# Altium footprint library Diode.PcbLib: 34 footprints (part 1 of 3)
Each footprint in its own frame and in the unit in brackets; x right, y up, seen from the top. Pads: shape width x height; smd on the part's side, far side on the other; paste and mask are expansions set on the pad; w line width, h text height; cw(c..) or ccw(c..) is an arc to the next point about the centre after c.
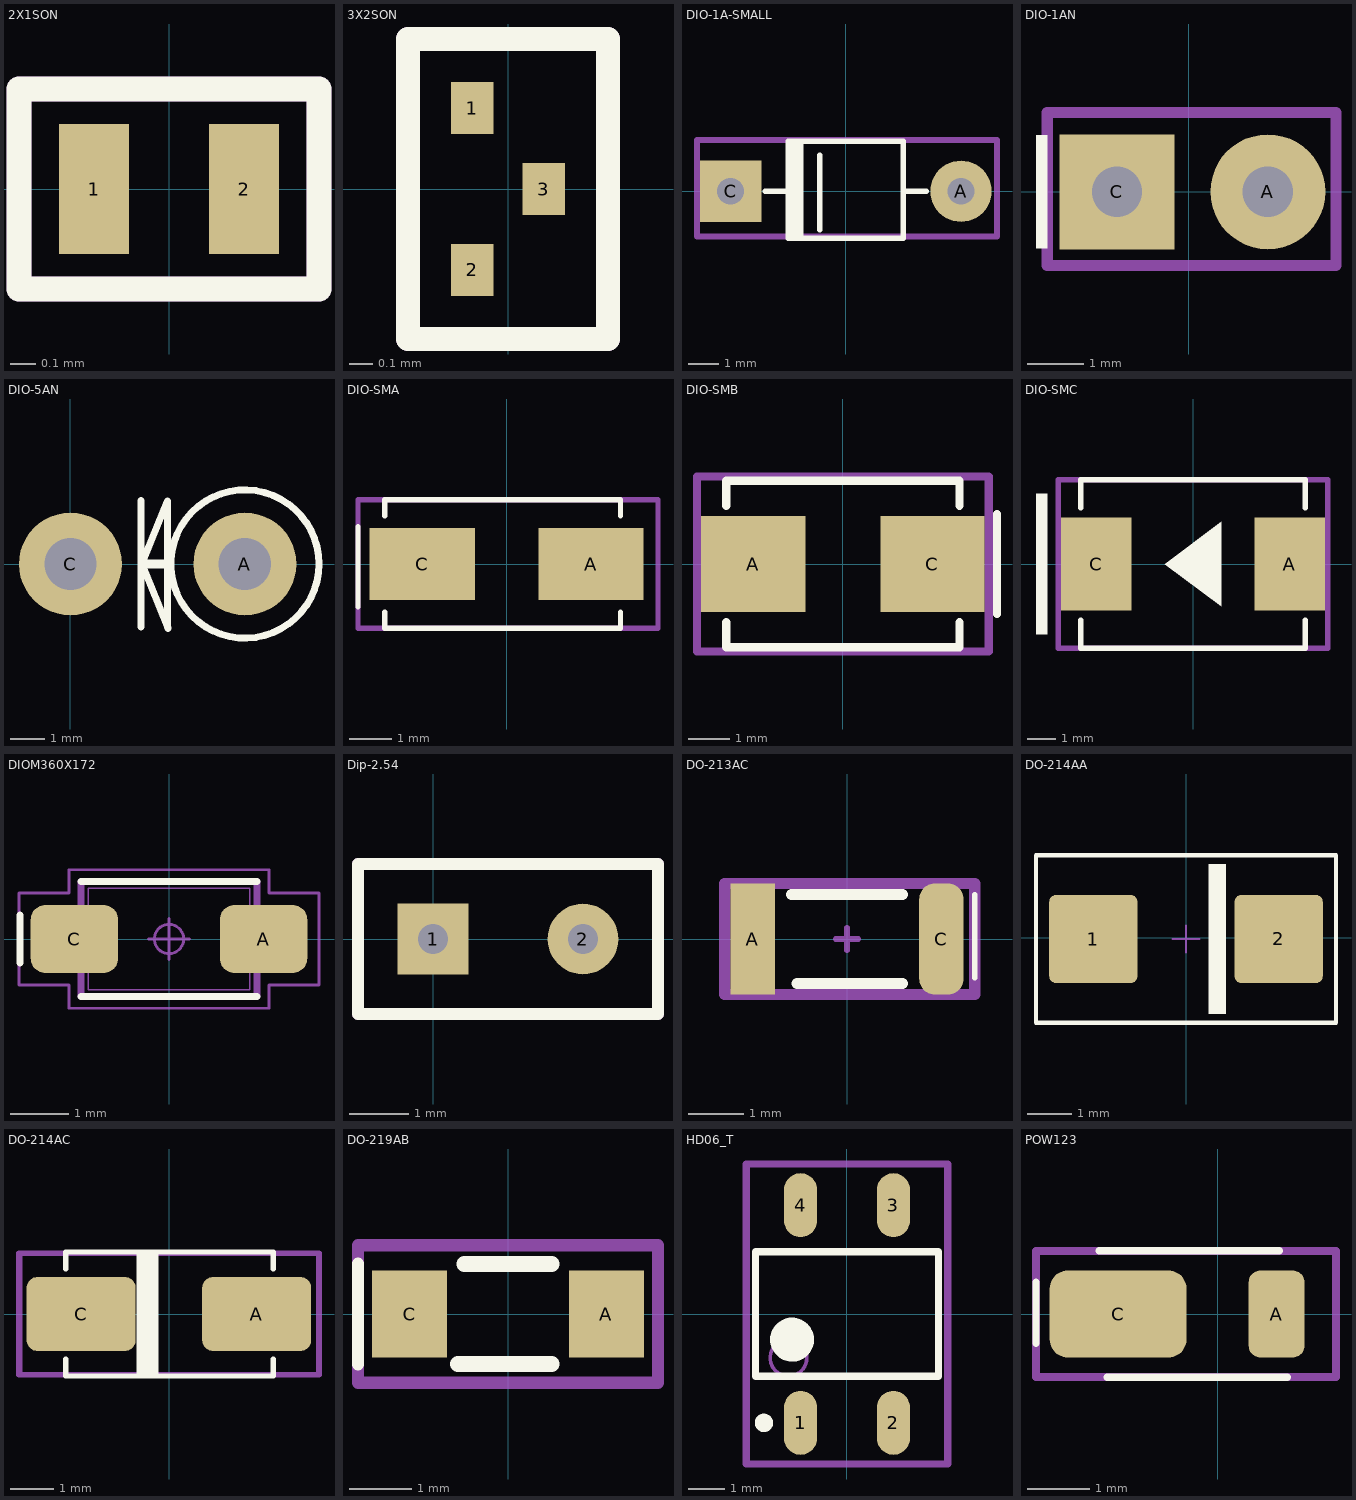
[diagram p0: the footprints below, top view; thin cyan lines are the x and y axes]

## 2X1SON [mm] "Diode, Non-Polarized, Dual Flat No-Lead (DFN 2 Pin); 2 pin, 1.00 mm L X 0.60 mm W X 0.45 mm H body"
height 0.45
pads (2):
  rect 0.28x0.52 smd: 1(-0.3,0) 2(0.3,0)
Top Overlay:
  lines w0.1: -0.6,-0.4 -0.6,0.4 0.6,0.4 0.6,-0.4 -0.6,-0.4
Mechanical 13:
  lines w0.1: -0.6,-0.4 0.6,-0.4 0.6,0.4 -0.6,0.4 -0.6,-0.4
  text ".Designator" at -0.6,-0.2 h0.5
Mechanical 15:
  lines w0.1: -0.6,-0.4 0.6,-0.4 0.6,0.4 -0.6,0.4 -0.6,-0.4
  text ".Comment" at -0.6,-0.1 h0.5
3D body "2X1SON.STEP": height 0.45, standoff 0, extent -0.5,-0.3 0.5,0.3

## 3X2SON [mm] "Diode, Dual Flat No-Lead (DFN 3 Pins), 0.30 mm pitch; 3 pin, 0.60 mm L X 1.00 mm W X 0.40 mm H body"
height 0.4
pads (3):
  rect 0.18x0.22 smd: 1(-0.15,0.34) 2(-0.15,-0.34) 3(0.15,0)
Top Overlay:
  lines w0.1: -0.42,-0.63 0.42,-0.63 0.42,0.63 -0.42,0.63 -0.42,-0.63
Mechanical 13:
  lines w0.1: -0.42,-0.63 -0.42,0.63 0.42,0.63 0.42,-0.63 -0.42,-0.63
  text ".Designator" at 0.2,-0.63 h0.5
Mechanical 15:
  lines w0.1: -0.42,-0.63 -0.42,0.63 0.42,0.63 0.42,-0.63 -0.42,-0.63
  text ".Comment" at 0.1,-0.63 h0.5
3D body "3X2SON.STEP": height 0.4, standoff 0, extent -0.3,-0.5 0.3,0.5

## DIO-1A-SMALL [mil] "Diode 1A, W 100mil, L 350mil"
height 100
pads (2):
  round 80 hole 35: A(150,0)
  rect 80x80 hole 35: C(-150,0)
Top Overlay:
  rectangle: -75,-60.98 -55,65
  lines w7: -105,0 -75,0 ; -75,-16 -75,0 ; -75,21 -75,0 ; -34,-50 -34,47 ; 75,0 105,0 ; -75,0 -75,65 75,65 75,-60.98 -75,-60.98 -75,0
Mechanical 13:
  lines w7.87: -193.7,-59.06 -193.7,66.93 196.85,66.93 196.85,-59.06 -193.7,-59.06
  text ".Designator" at -153.54,-11.81 h59.06
Mechanical 15:
  lines w7.87: -193.7,-59.06 196.85,-59.06 196.85,66.93 -193.7,66.93 -193.7,-59.06
  text ".Comment" at -153.54,-11.81 h59.06
3D body "User Library-DO-15-1.step": height 122.05, standoff -137.8, extent -165.75,-60.98 165.75,65

## DIO-1AN [mil] "Diode 1A, W 100mil, L 150mil"
height 100
pads (2):
  round 80 hole 35: A(55,0)
  rect 80x80 hole 35: C(-50,0)
Top Overlay:
  rectangle: -106.3,-39.37 -98.43,39.37
Mechanical 13:
  lines w7.87: -98.43,-51.18 -98.43,55.12 102.36,55.12 102.36,-51.18 -98.43,-51.18
  text ".Designator" at -94.49,-15.75 h59.06
Mechanical 15:
  lines w7.87: -98.43,-51.18 102.36,-51.18 102.36,55.12 -98.43,55.12 -98.43,-51.18
  text ".Comment" at -94.49,-15.75 h59.06
3D body "SW3dPS-1N4007_Stand.STEP": height 252.32, standoff -78.14, extent -64,-50 104,55

## DIO-5AN [mm] "Diode 5A, W 200mil, L 250mil"
height 3.81
pads (2):
  round 3 hole 1.524: A(5.08,0) C(0,0)
Top Overlay:
  circle w0.203: c5.08,0 r2.159
  lines w0.203: 2.057,-1.829 2.057,1.854 ; 2.083,0 2.819,1.829 2.819,-1.854 ; 2.108,-0.051 2.845,-1.88
  lines w0.254: 2.083,0 2.87,0
3D body "User Library-1N540X.STEP": height 11.45, standoff -4, extent -0.815,-2.824 5.641,2.286

## DIO-SMA [mm]
pads (2):
  rect 2.5x1.7 smd: A(2,0) C(-2,0)
Top Overlay:
  lines w0.127: -3.524,-1.016 -3.524,0.889 ; -2.889,-1.143 -2.889,-1.524 2.699,-1.524 2.699,-1.143 ; -2.889,1.143 -2.889,1.524 2.699,1.524 2.699,1.143
Mechanical 13:
  lines w0.127: -3.524,-1.524 3.588,-1.524 3.588,1.524 -3.524,1.524 -3.524,-1.524
  text ".Designator" at -2.3,-0.3 h1
Mechanical 15:
  lines w0.127: -3.524,-1.524 3.588,-1.524 3.588,1.524 -3.524,1.524 -3.524,-1.524
  text ".Comment" at -2.3,-0.1 h1
3D body "SMB.STEP": height 2.3, standoff 0.02, extent -2.743,-1.397 2.743,1.397

## DIO-SMB [mm]
pads (2):
  rect 2.5x2.3 smd: A(-2.15,0) C(2.15,0)
Top Overlay:
  lines w0.2: -2.8,-1.4 -2.8,-2 2.8,-2 2.8,-1.4 ; -2.8,1.4 -2.8,2 2.8,2 2.8,1.4 ; 3.7,-1.2 3.7,1.2
Mechanical 13:
  lines w0.2: -3.5,-2.1 3.5,-2.1 3.5,2.1 -3.5,2.1 -3.5,-2.1
  text ".Designator" at -3.5,-0.5 h1.5
Mechanical 15:
  lines w0.2: -3.5,-2.1 -3.5,2.1 3.5,2.1 3.5,-2.1 -3.5,-2.1
  text ".Comment" at -3.5,-0.4 h1.5
3D body "User Library-DO-214AA(SMB).step": height 2.6, standoff -0.05, extent -2.794,-1.975 2.794,1.975

## DIO-SMC [mm]
pads (2):
  rect 2.5x3.3 smd: A(3.45,0) C(-3.45,0)
Top Overlay:
  region: -5.6,2.5 -5.6,-2.5 -5.2,-2.5 -5.2,2.5
  region: 1,1.5 -1,0 1,-1.5
  lines w0.2: -4,-2 -4,-3 4,-3 4,-2 ; -4,2 -4,3 4,3 4,2
Mechanical 13:
  lines w0.2: -4.8,-3 -4.8,3 4.8,3 4.8,-3 -4.8,-3
  text ".Designator" at -4.4,-0.4 h1.5
Mechanical 15:
  lines w0.2: -4.8,-3 4.8,-3 4.8,3 -4.8,3 -4.8,-3
  text ".Comment" at -4.4,-0.4 h1.5
3D body "User Library-DO-214AB SMC.step": height 2.3, standoff 0, extent -3.975,-2.95 3.975,2.95

## DIOM360X172 [mm] "Diode, Molded Body; 3.60 mm L X 1.725 mm W X 1.08 mm H body"
height 1.08
pads (2):
  rrect43% 1.49x1.16 smd: A(1.61,0) C(-1.61,0)
Top Overlay:
  lines w0.12: -2.535,-0.41 -2.535,0.41 ; -1.5,-0.98 1.5,-0.98 ; -1.5,0.98 1.5,0.98
Mechanical 12:
  lines w0.025: -1.8,-0.413 -1.8,0.413 -1.1,0.413 -1.1,-0.413 -1.8,-0.413 ; -1.375,-0.863 1.375,-0.863 1.375,0.863 -1.375,0.863 -1.375,-0.863 ; 1.1,-0.413 1.8,-0.413 1.8,0.413 1.1,0.413 1.1,-0.413
Mechanical 13:
  lines w0.12: -1.5,-0.98 1.5,-0.98 1.5,0.98 -1.5,0.98 -1.5,-0.98
  text ".Designator" at 0,0 h1.2
Mechanical 15:
  circle w0.05: c0,0 r0.25
  lines w0.05: -0.35,0 0.35,0 ; 0,-0.35 0,0.35 ; -2.555,-0.78 -1.7,-0.78 -1.7,-1.18 1.7,-1.18 1.7,-0.78 2.555,-0.78 2.555,0.78 1.7,0.78 1.7,1.18 -1.7,1.18 -1.7,0.78 -2.555,0.78 -2.555,-0.78
  text ".Comment" at 0,0 h0.64
3D body "DIOM360X172.STEP": height 1.08, standoff 0, extent -1.8,-0.862 1.8,0.863

## Dip-2.54 [mm]
pads (2):
  rect 1.2x1.2 hole 0.5: 1(0,0)
  round 1.2 hole 0.5: 2(2.54,0)
Top Overlay:
  lines w0.2: -1.27,-1.27 3.81,-1.27 3.81,1.27 -1.27,1.27 -1.27,-1.27
Mechanical 13:
  lines w0.2: -1.27,-1.27 -1.27,1.27 3.81,1.27 3.81,-1.27 -1.27,-1.27
  text ".Designator" at -0.861,-0.281 h1
Mechanical 15:
  lines w0.2: -1.27,-1.27 -1.27,1.27 3.81,1.27 3.81,-1.27 -1.27,-1.27
  text ".Comment" at -0.734,-0.281 h1

## DO-213AC [mm]
pads (2):
  rect 0.8x2 smd: A(-1.7,0)
  rrect70% 0.8x2 smd: C(1.7,0)
Top Overlay:
  lines w0.1: 2.3,-0.7 2.3,0.8
  lines w0.2: -1,0.8 1,0.8 ; -0.9,-0.8 1,-0.8
Mechanical 1:
  lines w0.1: -0.2,0 0.2,0 ; 0,-0.2 0,0.2
Mechanical 13:
  lines w0.2: -2.2,-1 2.3,-1 2.3,1 -2.2,1 -2.2,-1
  text ".Designator" at -1.9,-0.8 h2.54
Mechanical 15:
  lines w0.2: -2.2,-1 -2.2,1 2.3,1 2.3,-1 -2.2,-1
  text ".Value" at -1.9,-0.8 h2.54
3D body "DO-213AA-RED.stp": height 1.59, standoff -0.01, extent -1.875,-0.775 1.825,0.8

## DO-214AA [mm] "Diode, Molded Body; 5.23 mm L X 2.62 mm W X 2.95 mm H body"
height 2.95
pads (2):
  rrect15% 2x2 smd paste+0.1: 1(-2.1,-0.025) 2(2.1,-0.025)
Top Overlay:
  region: 0.906,1.675 0.506,1.675 0.506,-1.725 0.906,-1.725
  lines w0.05: -3.4,-1.925 3.4,-1.925 3.4,1.875
  lines w0.1: -3.4,-1.925 -3.4,1.875 3.4,1.875 3.4,-1.925 -3.4,-1.925
Mechanical 14:
  lines w0.05: -3.4,-1.925 -3.4,1.875 3.4,1.875 ; -0.3,-0.025 0.3,-0.025 ; 0,-0.325 0,0.275
3D body "User Library-DO-214AA SMB.STEP": height 2.3, standoff 0, extent -2.7,-1.825 2.7,1.775

## DO-214AC [mm] "Diode, Molded Body; 5.23 mm L X 2.62 mm W X 2.95 mm H body"
height 2.95
pads (2):
  rrect29% 2.5x1.7 smd: A(2,0) C(-2.025,0)
Top Overlay:
  rectangle: -0.75,-1.397 -0.254,1.42
  lines w0.12: -2.38,-1.035 -2.38,-1.42 2.38,-1.42 2.38,-1.035 ; -2.38,1.035 -2.38,1.42 2.38,1.42 2.38,1.035
Mechanical 1:
  lines w0.127: -3.45,-1.397 -3.45,1.397 3.429,1.397 3.429,-1.397 -3.45,-1.397
Mechanical 13:
  text ".Designator" at -2.413,-0.254 h1
Mechanical 15:
  lines w0.127: -3.429,-1.397 -3.429,1.397 3.429,1.397 3.429,-1.397 -3.429,-1.397
  text ".Comment" at -2.413,-0.254 h1
3D body "DO-214AC.STEP": height 2.95, standoff 0, extent -2.615,-1.31 2.615,1.31

## DO-219AB [mm]
height 1.2
pads (2):
  rect 1.2x1.4 smd: A(1.575,0) C(-1.575,0)
Top Overlay:
  lines w0.2: -2.4,-0.8 -2.4,0.8
  lines w0.254: -0.8,-0.8 0.7,-0.8 ; -0.7,0.8 0.7,0.8
Mechanical 13:
  lines w0.2: -2.4,-1.1 -2.4,1.1 2.4,1.1 2.4,-1.1 -2.4,-1.1
  text ".Designator" at -2.151,-0.281 h1.5
Mechanical 15:
  lines w0.2: -2.4,-1.1 2.4,-1.1 2.4,1.1 -2.4,1.1 -2.4,-1.1
  text ".Comment" at -2.024,-0.281 h1
3D body "User Library-SOD-123.step": height 1.25, standoff 0, extent -1.849,-0.8 1.849,0.8

## HD06_T [mm]
pads (4):
  oval 0.9x1.75 smd: 1(-1.27,-2.975) 2(1.27,-2.975) 3(1.27,2.975) 4(-1.27,2.975)
Top Overlay:
  circle w0.25: c-2.27,-2.975 r0.125
  circle w0.6: c-1.5,-0.7 r0.3
  lines w0.2: -2.5,-1.7 2.5,-1.7 2.5,1.7 -2.5,1.7 -2.5,-1.7
Mechanical 13:
  circle w0.1: c-1.6,-1.2 r0.5
  lines w0.2: -2.75,-4.1 -2.75,4.1 ; -2.75,-4.1 -2.75,4.1 ; -2.75,-4.1 2.75,-4.1 ; -2.75,-4.1 2.75,-4.1 ; -2.75,4.1 2.75,4.1 ; -2.75,4.1 2.75,4.1 ; 2.75,-4.1 2.75,4.1 ; 2.75,-4.1 2.75,4.1
  text ".Designator" at -2.3,0 h1.5
3D body "MBS.step": height 2.9, standoff 0, extent -2.5,-3.35 2.5,3.35

## POW123 [mm] "Diode, Small Outline Diode (SOD); 2.75 mm L X 1.80 mm W X 1.02 mm H body"
height 1.02
pads (2):
  rrect41% 0.9x1.4 smd: A(0.95,0)
  rrect41% 2.2x1.4 smd: C(-1.6,0)
Top Overlay:
  lines w0.12: -2.921,-0.472 -2.921,0.508 ; -1.905,1.016 0.995,1.016 ; -1.778,-1.016 1.122,-1.016
Mechanical 13:
  lines w0.12: -2.921,-1.016 1.905,-1.016 1.905,1.016 -2.921,1.016 -2.921,-1.016
  text ".Designator" at -2.286,-0.472 h0.64
Mechanical 15:
  lines w0.127: -2.921,-1.016 1.905,-1.016 1.905,1.016 -2.921,1.016 -2.921,-1.016
  text ".Comment" at -2.286,-0.127 h0.64
3D body "SOD123W.STEP": height 1.02, standoff 0, extent -2.485,-0.911 1.215,0.889